# Altium schematic symbol library Intelliclone.SchLib: 488 symbols (part 1 of 6)
Pins are listed as number, name and electrical type; pins without a type are passive.

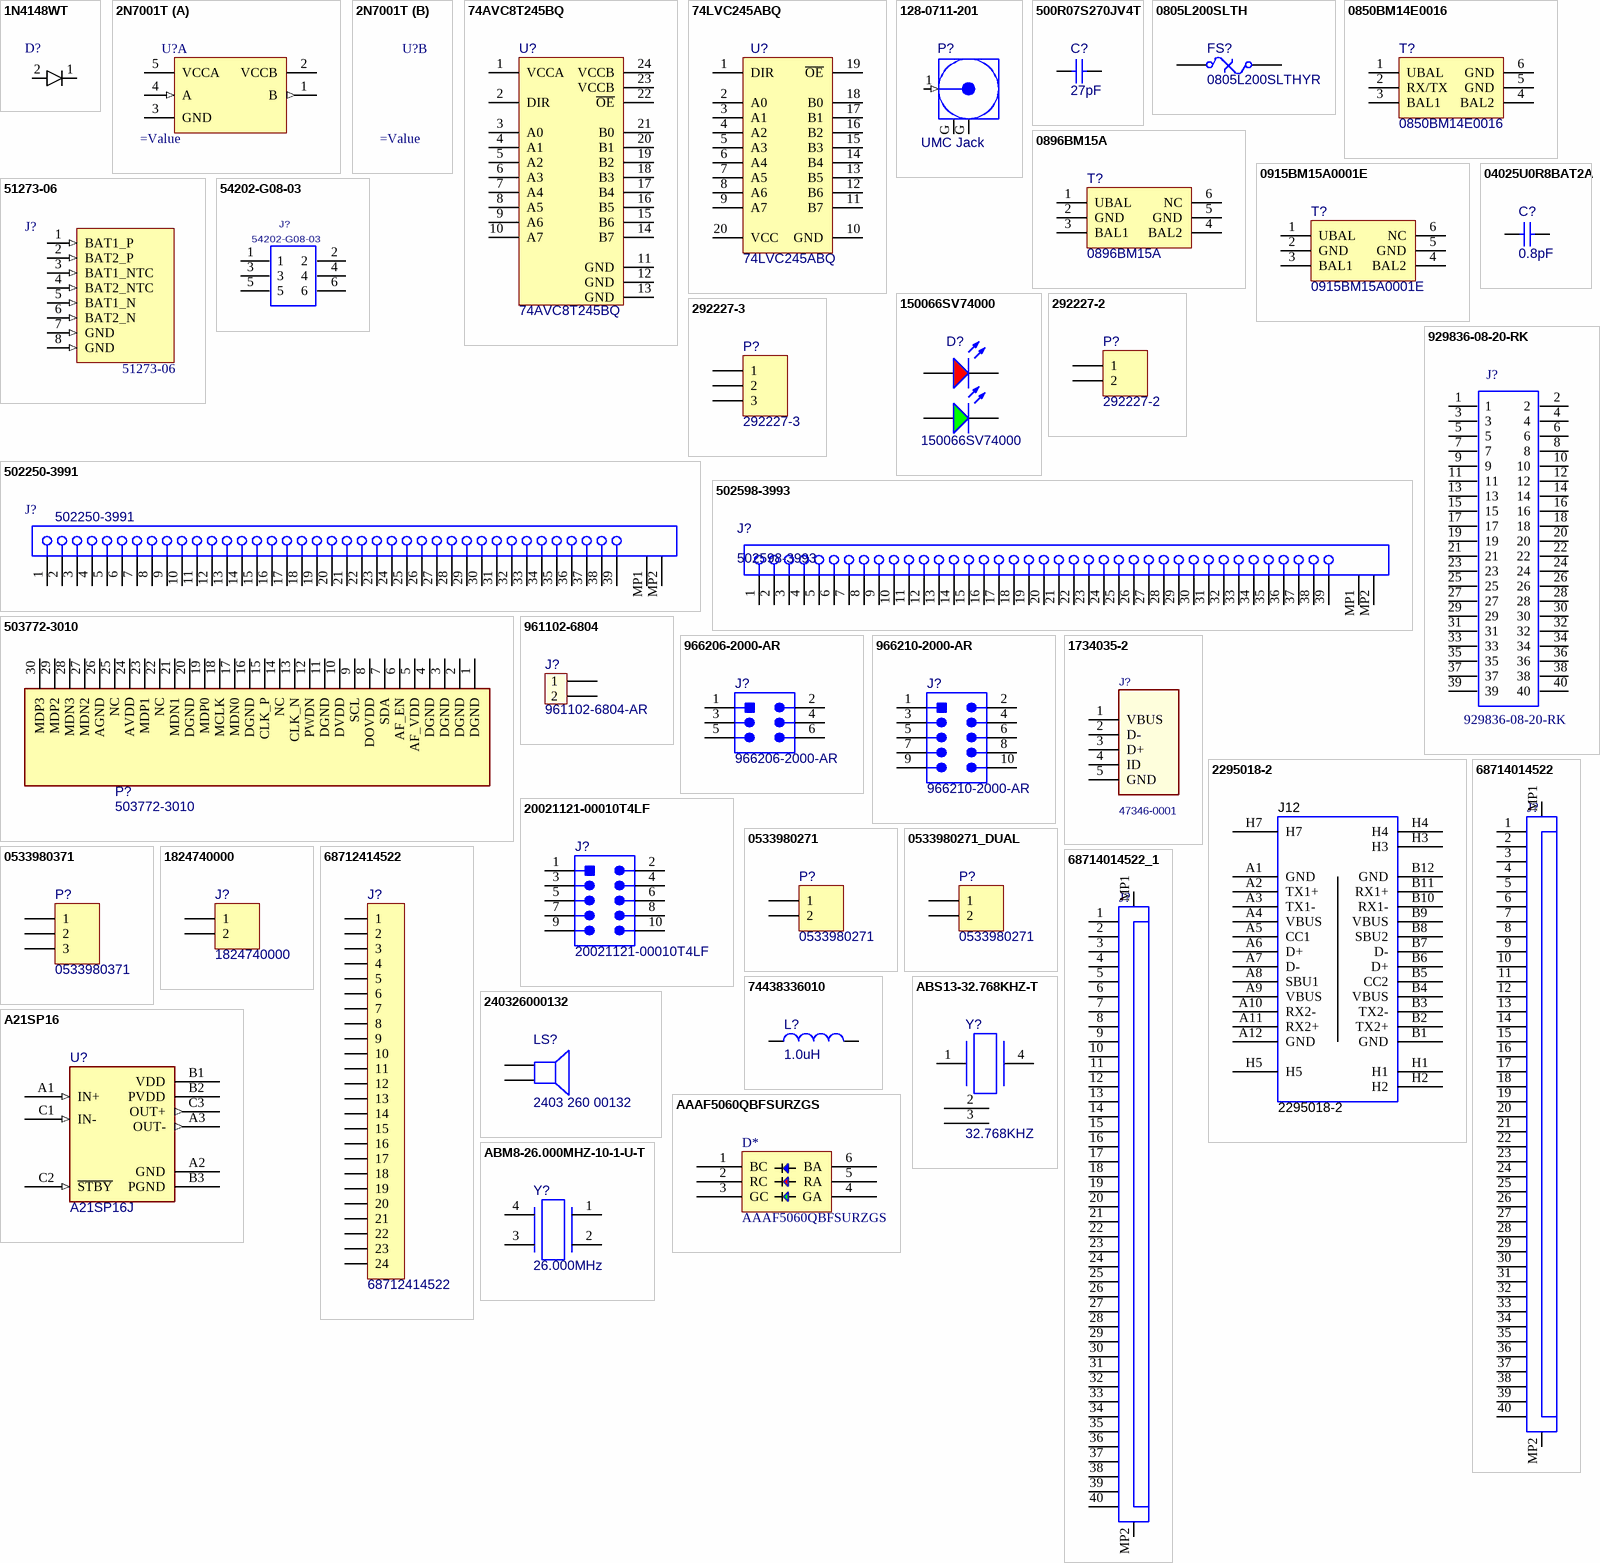
[diagram p0: symbols 1N4148WT to ABS13-32.768KHZ-T]

## 1N4148WT
designator D?  (value not drawn)
DIODE GEN PURP 75V 200MA SOD523F; Manufacturer 1: ON Semiconductor; CMT Part Number: 100263; Supplier Part Number 1: 1N4148WTCT-ND; Manufacturer Part Number 1: 1N4148WT; Supplier 1: Digi-Key; Value: 1N4148WT
footprint SODFL1608X70N
pins: 1 C, 2 A

## 2N7001T
designator U?
IC 1-BIT DUAL-SUPPLY BUFFERED VOLTAGE TRANSLATOR
footprint SOT65P210X110-5N (SOT23, 5-Leads, Body 2.00x2.10mm, Pitch 0.65mm, IPC Medium Density)
part A pins: 1 B (out), 2 VCCB (power), 3 GND, 4 A (in), 5 VCCA (power)

## 74AVC8T245BQ
designator U?
IC TXRX 8BIT TRANSLATNG 24DHVQFN; Manufacturer 1: NXP; Manufacturer Part Number 1: 74AVC8T245BQ,118; Value: 74AVC8T245BQ; Supplier 1: Digi-Key; Supplier Part Number 1: 568-5252-1-ND
pins: 1 VCCA, 2 DIR, 3 A0, 4 A1, 5 A2, 6 A3, 7 A4, 8 A5, 9 A6, 10 A7, 11 GND, 12 GND, 13 GND, 14 B7, 15 B6, 16 B5, 17 B4, 18 B3, 19 B2, 20 B1, 21 B0, 22 ~{OE}, 23 VCCB, 24 VCCB

## 74LVC245ABQ
designator U?
IC TRANSCVR TRI-ST 8BIT 20DHVQFN; Manufacturer 1: NXP; Manufacturer Part Number 1: 74LVC245ABQ,115; Value: 74LVC245ABQ; Supplier 1: Digi-Key; Supplier 2: Arrow; Supplier Part Number 1: 568-3012-1-ND; Supplier Part Number 2: kDK-L0v7NJcHE0un6lTKracsxHbhaSEGDfZ0FNUtz-s
pins: 1 DIR, 2 A0, 3 A1, 4 A2, 5 A3, 6 A4, 7 A5, 8 A6, 9 A7, 10 GND, 11 B7, 12 B6, 13 B5, 14 B4, 15 B3, 16 B2, 17 B1, 18 B0, 19 ~{OE}, 20 VCC

## 128-0711-201
designator P?, comment UMC Jack
CONN UMC RCPT STR 50 OHM SMD; Manufacturer Part Number 1: 128-0711-201; Manufacturer 1: Emerson; Supplier 1: Digi-Key; Supplier Part Number 1: J983CT-ND; Supplier 2: Mouser; Supplier Part Number 2: 530-1280711201; CMT Part Number: *; Value: UMC Jack
footprint MMCX2.54-V5 (Connector; RF Coaxial, MMCX, Thru-Hole; 5 Position; Vertical)
footprint U.FL/UMCC (Snap-on connector 6 GHz)
pins: 1 Signal (in) "Signal Pin", G GND (power), G GND (power)

## 500R07S270JV4T
designator C?, comment 27pF
CAP CER 27PF 50V 5% NP0 0402; Manufacturer 1: Johanson Technology; Manufacturer Part Number 1: 500R07S270JV4T; Supplier 1: Digi-Key; Supplier Part Number 1: 712-1277-1-ND; Supplier 2: Mouser; Supplier Part Number 2: 609-500R07S270JV4T; Value: 27pF
footprint CC1608-0603
simulation model CAP (Capacitor)
signal-integrity model Cap
footprint RESC0603L
footprint RESC1608L
footprint RESC3216L
footprint CAPC2512N
footprint 0603
footprint 0603_MOD
footprint 0402-TIGHT (For packing)
footprint 0402 Capacitor
pins: 1, 2

## 0805L200SLTH
designator FS?, comment 0805L200SLTHYR
PTC RESET 6V LO RHO 0805 2.00A; Manufacturer 1: Littelfuse; Manufacturer Part Number 1: 0805L200SLTHYR; Supplier 1: Digi-Key; Supplier Part Number 1: F5780CT-ND; Supplier 2: Mouser; Supplier Part Number 2: 576-0805L200SLTHYR; Value: 0805L200SLTHYR
footprint RESC2113X05N (Footprint not found)
pins: 1, 2

## 0850BM14E0016
designator T?
RF BALUN FILTER 928MHZ SMD; Manufacturer 1: Johanson Technology Inc.; Manufacturer Part Number 1: 0850BM14E0016T; Value: 0915BM15A0001E; Part Type: Balun; Supplier 1: Digi-Key; Supplier Part Number 1: 712-1621-1-ND
footprint BALUN-0850BM14
footprint GE0805-C-1 (Mini-Circuits 6-pin 0805-size device)
pins: 1 UBAL, 2 RX/TX, 3 BAL1, 4 BAL2, 5 GND, 6 GND

## 0896BM15A
designator T?
FILTER BALUN MATCH 863-928MHZ; Manufacturer 1: Johanson Technology; Value: 0896BM15A0001E; Part Type: Balun; Supplier 1: Digi-Key; Supplier Part Number 1: 712-1474-1-ND; Supplier 2: Mouser; Supplier Part Number 2: 609-0896BM15A0001E; Manufacturer Part Number 1: 0896BM15A0001E
footprint BALUN-0896BM15A
footprint GE0805-C-1 (Mini-Circuits 6-pin 0805-size device)
pins: 1 UBAL, 2 GND, 3 BAL1, 4 BAL2, 5 GND, 6 NC

## 0915BM15A0001E
designator T?
FILTER BANDPASS 902-928MHZ TI; Manufacturer 1: Johanson Technology; Part Type: Balun; Value: 0915BM15A0001E; Manufacturer Part Number 1: 0915BM15A0001E; Supplier 1: Digi-Key; Supplier Part Number 1: 712-1541-1-ND; Supplier 2: Mouser; Supplier Part Number 2: 609-0915BM15A0001E
footprint BALUN-0896BM15A
footprint GE0805-C-1 (Mini-Circuits 6-pin 0805-size device)
pins: 1 UBAL, 2 GND, 3 BAL1, 4 BAL2, 5 GND, 6 NC

## 04025U0R8BAT2A
designator C?, comment 0.8pF
CAP CER 0.8PF 50V NP0 0402; Manufacturer 1: AVX; Manufacturer Part Number 1: 04025U0R8BAT2A; Supplier 1: Digi-Key; Supplier Part Number 1: 478-5716-1-ND; Supplier 2: Mouser; Supplier Part Number 2: 581-04025U0R8BAT2A; Value: 0.8pF
footprint CC1608-0603
simulation model CAP (Capacitor)
signal-integrity model Cap
footprint RESC0603L
footprint RESC1608L
footprint RESC3216L
footprint CAPC2512N
footprint 0603
footprint 0603_MOD
footprint 0402-TIGHT (For packing)
footprint 0402 Capacitor
pins: 1, 2

## 51273-06
designator J?
1.2mm Pitch WTB Wafer Connector; Manufacturer 1: ACES Electronics; Manufacturer Part Number 1: 51273-06; Supplier 1: CMT; Supplier Part Number 1: *; Value: 51273-06; CMT Part Number: *
footprint 51273-06 (6 pin battery connector)
pins: 1 BAT1_P (in), 2 BAT2_P (in), 3 BAT1_NTC (in), 4 BAT2_NTC (in), 5 BAT1_N (in), 6 BAT2_N (in), 7 GND (in), 8 GND (in)

## 54202-G08-03
designator J?
CONN HEADER SMD 6POS 2.54MM; Manufacturer: Amphenol FCI; Manufacturer Part Number: 54202-G0803ALF; Connector Type: Male Pin; Gender: Male; Depth: 4.83mm; Supplier: Digi-Key; Supplier Part Number: 609-5785-2-ND
footprint TSM-103-XX-XXX-DV
footprint TSM-103-XX-XXX-DV
pins: 1, 2, 3, 4, 5, 6

## 150066SV74000
designator D?, comment value 150066SV74000  (hidden comment: GREEN)
LED GREEN/RED CLEAR SMD; Manufacturer 1: Wurth Electronik; CMT Part Number: 100250; Manufacturer Part Number 1: 150066SV74000; Supplier 1: Digi-Key; Supplier Part Number 1: 732-11430-1-ND
simulation model LED3 (Diode)
signal-integrity model LED
footprint 150066SV74000 (LED GREEN/RED CLEAR SMD)
pins: 1 K, 2 A, 3 K, 4 A

## 292227-2
designator P?
CONN HEADER 2POS 1.5MM HORIZ SMD; Manufacturer 1: TE Connectivity; Manufacturer Part Number 1: 292227-2; Part Type: Connector; Value: 292227-2; Supplier 1: Digi-Key; Supplier Part Number 1: A98695TR-ND
footprint PICOCLASP 1X3 (1mm 3pos SMD Header)
signal-integrity model Connector
footprint 292227-2 (Footprint not found)
pins: 1, 2

## 292227-3
designator P?
CONN HEADER 3POS 1.5MM HORIZ SMD; Manufacturer 1: TE Connectivity; Manufacturer Part Number 1: 292227-3; Part Type: Connector; Value: 292227-3; Supplier 1: Digi-Key; Supplier Part Number 1: A98696TR-ND
footprint PICOCLASP 1X3 (1mm 3pos SMD Header)
signal-integrity model Connector
footprint 292227-3 (CONN HEADER 3POS R/A SMD TIN)
pins: 1, 2, 3

## 502250-3991
designator J?
CONN FPC 39POS 0.30MM R/A; Manufacturer 1: Molex; Contact Position: Dual; Current (Max per Contact): 0.2A; Durability (mating cycles max): 10; Entry Angle: 90degrees Angle; Mated Height: 0.90mm; Material - Metal: Copper-Nickel-Tin; Material - Plating Mating: Gold; Packing: Tape and Reel; PCB Locator: No; PCB Retention: Yes; Voltage (Max): 50V AC (RMS)/DC; PackageVersion: Rev. D, 12/2008; PackageReference: 502250-3991; PackageDescription: 39-Lead FPC Connector, Pitch 0.3 mm; Supplier 1: Digi-Key; Supplier Part Number 1: WM2238-ND; Supplier 2: Digi-Key; Supplier Part Number 2: 502250-3991-ND; Supplier 3: Mouser; Supplier Part Number 3: 538-502250-3991; Material - Plating Termination: Gold; Number of Rows: 1; Orientation: Right Angle; Pitch - Mating Interface: 0.30mm; Polarized to PCB: Yes; RoHS: TRUE; Stackable: No; Mounting Technology: Surface Mount; PartNumber: 502250-3991; ComponentLink1Description: Manufacturer URL; ComponentLink1URL: http://www.molex.com/molex/index.jsp; ComponentLink2Description: Datasheet; ComponentLink2URL: http://www.molex.com/webdocs/datasheets/pdf/en-us/5022503991_FFC_FPC_CONNECTORS.pdf; ComponentLink3Description: Package Specification; ComponentLink3URL: http://www.molex.com/pdm_docs/sd/5022503991_sd.pdf; Manufacturer Part Number 1: 502250-3991; Value: 502250-3991
footprint MOLX-502250-3991 (FPC Connector, 39-Leads, Right Angle, Pitch 0.3 mm, Mated Height 0.9 mm, SMT)
pins: 1, 2, 3, 4, 5, 6, 7, 8, 9, 10, 11, 12, 13, 14, 15, 16, 17, 18, 19, 20, 21, 22, 23, 24, 25, 26, 27, 28, 29, 30, 31, 32, 33, 34, 35, 36, 37, 38, 39, MP1, MP2

## 502598-3993
designator J?
CONN FPC 39POS 0.30MM R/A; CMT Part Number: 100172; Manufacturer 1: Molex; Contact Position: Dual; Current (Max per Contact): 0.2A; Durability (mating cycles max): 10; Entry Angle: 90degrees Angle; Mated Height: 1.15mm; Material - Metal: Copper Alloy, Phosphor Bronze; Material - Plating Mating: Gold; Material - Plating Termination: Gold, Tin; Packing: Tape and Reel; PCB Locator: No; PCB Retention: Yes; Voltage (Max): 50V AC (RMS)/DC; PackageVersion: Rev. B, 08/2013; PackageReference: 502598-3993; PackageDescription: 39-Lead FPC Connector, Pitch 0.3 mm; Supplier 1: Mouser; Supplier Part Number 1: 538-502598-3993; Number of Rows: 1; Orientation: Right Angle; Pitch - Mating Interface: 0.30mm; Polarized to PCB: Yes; RoHS: TRUE; Stackable: No; Mounting Technology: Surface Mount; PartNumber: 502598-3993; ComponentLink1Description: Manufacturer URL; ComponentLink1URL: http://www.molex.com/molex/index.jsp; ComponentLink2Description: Datasheet; ComponentLink2URL: http://www.molex.com/webdocs/datasheets/pdf/en-us/5025983993_FFC_FPC_CONNECTORS.pdf; ComponentLink3Description: Package Specification; ComponentLink3URL: http://www.molex.com/pdm_docs/sd/5025983993_sd.pdf; Value: 502598-3993; Manufacturer Part Number 1: 502598-3993
footprint MOLX-502598-3993 (FPC Connector, 39-Leads, Right Angle, Pitch 0.3 mm, Mated Height 1.15 mm, SMT)
pins: 1, 2, 3, 4, 5, 6, 7, 8, 9, 10, 11, 12, 13, 14, 15, 16, 17, 18, 19, 20, 21, 22, 23, 24, 25, 26, 27, 28, 29, 30, 31, 32, 33, 34, 35, 36, 37, 38, 39, MP1, MP2

## 503772-3010
designator P?
CONN RCPT 30POS 0.4MM SMD GOLD; Manufacturer 1: Molex; Manufacturer Part Number 1: 503772-3010; Value: 503772-3010; Supplier 1: Digi-Key; Supplier Part Number 1: WM6252CT-ND
footprint 5037723010 (Molex Slim Stack 0.4mm)
pins: 1 DGND, 2 DGND, 3 DGND, 4 DGND, 5 AF_VDD, 6 AF_EN, 7 SDA, 8 DOVDD, 9 SCL, 10 DVDD, 11 DGND, 12 PWDN, 13 CLK_N, 14 NC, 15 CLK_P, 16 DGND, 17 MDN0, 18 MCLK, 19 MDP0, 20 DGND, 21 MDN1, 22 NC, 23 MDP1, 24 AVDD, 25 NC, 26 AGND, 27 MDN2, 28 MDN3, 29 MDP2, 30 MDP3

## 929836-08-20-RK
designator J?  value 929836-08-20-RK  (hidden comment: *)
40 Positions Header, Unshrouded Connector 0.100" (2.54mm) Through Hole Tin; Manufacturer: 3M; Manufacturer Part Number: 929836-08-20-RK
footprint HDR2X20-2.54MM-TH (40 Positions Header, Unshrouded Connector 0.100" (2.54mm) Through Hole Tin)
pins: 1, 2, 3, 4, 5, 6, 7, 8, 9, 10, 11, 12, 13, 14, 15, 16, 17, 18, 19, 20, 21, 22, 23, 24, 25, 26, 27, 28, 29, 30, 31, 32, 33, 34, 35, 36, 37, 38, 39, 40

## 961102-6804
designator J?, comment 961102-6804-AR
CONN HEADER VERT SGL 2POS GOLD; Manufacturer: 3M; Manufacturer Part Number: 961102-6804-AR; Value: 961102-6804-AR; Supplier: Digikey; Supplier Part Number: 3M155862-ND
footprint 961102-6804-AR (2 Positions Header, Unshrouded Connector 0.100" (2.54mm) Through Hole Gold)
pins: 1, 2

## 966206-2000-AR
designator J?
CONN RECEPT 6POS DL SMD; Manufacturer 1: 3M; Manufacturer Part Number 1: 966206-2000-AR-PR; Value: 966206-2000-AR; Part Type: Connector
footprint HDR2X5 (Connector; Header; 5x2 Position)
signal-integrity model Connector
footprint 966206-2000-AR
pins: 1, 2, 3, 4, 5, 6

## 966210-2000-AR
designator J?
CONN RECEPT 10POS DL SMD; Manufacturer 1: 3M; Manufacturer Part Number 1: 966210-2000-AR-PR; Value: 966210-2000-AR; Part Type: Connector
footprint HDR2X5 (Connector; Header; 5x2 Position)
signal-integrity model Connector
footprint 966210-2000-AR
pins: 1, 2, 3, 4, 5, 6, 7, 8, 9, 10

## 1734035-2
designator J?, comment 47346-0001
CONN RCPT 5POS MICRO USB R/A; Manufacturer 1: Molex Connector Corporation; Supplier Part Number: WM17141CT-ND; Manufacturer Part Number 1: 47346-0001; Supplier 1: Digi-Key; Supplier 2: Mouser; Supplier 3: Newark; Supplier Part Number 1: WM17141TR-ND; Supplier Part Number 2: 538-47346-0001; Supplier Part Number 3: 17X0438; Value: 47346-0001
footprint 47346-0001 (CONN RCPT 5POS MICRO USB R/A)
pins: 1 VBUS, 2 D-, 3 D+, 4 ID, 5 GND

## 2295018-2
designator J12
CONN  SPLASH PROOF USB TYPE C REC, DUAL; Manufacturer 1: TE; CMT Part Number: 100246; PackageReference: Connector, Receptacle, USB Type C, SMT; ComponentLink1Description: Datasheet Link; ComponentLink1URL: https://sps06.itg.ti.com/sites/KMS/crossdivteams/altium/docs/ComponentDatasheets/20-0000016-01_socket_mid-mount.pdf; Value: 2295018-2; Manufacturer Part Number 1: 2295018-2; Supplier 1: Newark; Supplier 2: Allied; Supplier 3: Digi-Key; Supplier Part Number 1: 84Y3653; Supplier Part Number 2: 70890886; Supplier Part Number 3: A124378TB-ND
footprint 2295018-2 (Connector, Receptacle, USB Type C, SMT)
pins: A1 GND, A2 TX1+, A3 TX1-, A4 VBUS, A5 CC1, A6 D+, A7 D-, A8 SBU1, A9 VBUS, A10 RX2-, A11 RX2+, A12 GND, B1 GND, B2 TX2+, B3 TX2-, B4 VBUS, B5 CC2, B6 D+, B7 D-, B8 SBU2, B9 VBUS, B10 RX1-, B11 RX1+, B12 GND, H1, H2, H3, H4, H5, H7

## 20021121-00010T4LF
designator J?
CONN HEADER 10POS DL UNSHRD SMD; Manufacturer 1: FCI; CMT Part Number: 100247; Supplier 1: Digi-Key; Supplier Part Number 1: 609-3729-ND; Manufacturer Part Number 1: 20021121-00010T4LF; Value: 20021121-00010T4LF
footprint HDR2X5 (Connector; Header; 5x2 Position)
signal-integrity model Connector
footprint HDR2X5-1.27MM-SMT (Dual row connector, 10-pin)
pins: 1, 2, 3, 4, 5, 6, 7, 8, 9, 10

## 0533980271
designator P?
CONN HEADER SMD 2POS 1.25MM; Manufacturer 1: Molex; Manufacturer Part Number 1: 0533980271; Part Type: Connector; Supplier 1: Digi-Key; Value: 0533980271; Supplier Part Number 1: WM7606CT-ND
signal-integrity model Connector
footprint 53398-0271
pins: 1, 2

## 0533980271_DUAL
designator P?, comment 0533980271
CONN HEADER SMD 2POS 1.25MM - dual pad with B2B-PH-SM4-TB; Manufacturer 1: Molex; Manufacturer Part Number 1: 0533980271; Part Type: Connector; Supplier 1: Digi-Key; Value: 0533980271; Supplier Part Number 1: WM7606CT-ND
signal-integrity model Connector
footprint BATTERY_DUAL (Dual pad battery connector)
pins: 1, 2

## 0533980371
designator P?
CONN HEADER 3POS 1.25MM VERT SMD; Manufacturer 1: Molex; Manufacturer Part Number 1: 0533980371; Part Type: Connector; Value: 0533980371; Supplier 1: Digi-Key; Supplier Part Number 1: WM7607CT-ND; Supplier 2: Mouser; Supplier Part Number 2: 538-53398-0371
footprint PICOCLASP 1X3 (1mm 3pos SMD Header)
signal-integrity model Connector
footprint 0533980371 (Footprint not found)
pins: 1, 2, 3

## 1824740000
designator J?
CONN TERM BLOCK 2POS 5MM R/A PCB; Manufacturer 1: Weidmuller; Manufacturer Part Number 1: 1824740000; Supplier 1: Digi-Key; Supplier Part Number 1: 281-2110-ND; Value: 1824740000
footprint HDR1X2 (Connector; Header; 2 Position)
signal-integrity model Connector
footprint 1824740000
pins: 1, 2

## 68712414522
designator J?
CONN FPC 24POS 0.5MM PITCH BOTTOM SMD; Manufacturer 1: Wurth Elektronik GmbH; ComponentLink1 Description: Manufacturer; ComponentLink2 Description: Datasheet; Manufacturer Part Number 1: 68712414522; ComponentLink1URL: http://www.we-online.com; ComponentLink2URL: http://katalog.we-online.de/em/datasheet/6871xx14522.pdf; Value: 68712414522; Part Type: Connector; Supplier 1: Digi-Key; Supplier Part Number 1: 732-3516-1-ND
footprint 68712414522 (24 pins)
pins: 1, 2, 3, 4, 5, 6, 7, 8, 9, 10, 11, 12, 13, 14, 15, 16, 17, 18, 19, 20, 21, 22, 23, 24

## 68714014522
designator J?
SMT ZIF Connectors WR-FPC, Horizontal, Bottom Contact, pitch 0.5 mm, 40 pins; Part Number: 68714014522; Rated Current: 0.5 A; Contact Resistance: 20 mOhm; Withstanding Voltage: 250 VAC; Working Voltage: 50 VAC; Pin Number: 40; Pitch: 0.5 mm; ComponentLink1Description: Manufacturer; ComponentLink1URL: http://www.we-online.de; ComponentLink2Description: Datasheet; ComponentLink2URL: https://katalog.we-online.de/em/datasheet/68714014522.pdf; Published Date: August 2018; Publisher: Wurth Elektronik; Operating Temperature: -25 to 85 degC; Packaging: Tape and Reel; Mounting Technology: SMT; Orientation: Horizontal; Contact Design: Bottom Contact
footprint 68714014522
pins: 1, 2, 3, 4, 5, 6, 7, 8, 9, 10, 11, 12, 13, 14, 15, 16, 17, 18, 19, 20, 21, 22, 23, 24, 25, 26, 27, 28, 29, 30, 31, 32, 33, 34, 35, 36, 37, 38, 39, 40, MP1, MP2

## 68714014522_1
designator J?
SMT ZIF Connectors WR-FPC, Horizontal, Bottom Contact, pitch 0.5 mm, 40 pins; Part Number: 68714014522; Rated Current: 0.5 A; Contact Resistance: 20 mOhm; Withstanding Voltage: 250 VAC; Working Voltage: 50 VAC; Pin Number: 40; Pitch: 0.5 mm; ComponentLink1Description: Manufacturer; ComponentLink1URL: http://www.we-online.de; ComponentLink2Description: Datasheet; ComponentLink2URL: https://katalog.we-online.de/em/datasheet/68714014522.pdf; Published Date: August 2018; Publisher: Wurth Elektronik; Operating Temperature: -25 to 85 degC; Packaging: Tape and Reel; Mounting Technology: SMT; Orientation: Horizontal; Contact Design: Bottom Contact
footprint 68714014522
pins: 1, 2, 3, 4, 5, 6, 7, 8, 9, 10, 11, 12, 13, 14, 15, 16, 17, 18, 19, 20, 21, 22, 23, 24, 25, 26, 27, 28, 29, 30, 31, 32, 33, 34, 35, 36, 37, 38, 39, 40, MP1, MP2

## 74438336010
designator L?, comment 1.0uH
INDUCTOR  FIXED 1UH 4A 32 MOHM SMD; Manufacturer 1: Wurth; Manufacturer Part Number 1: 74438336010; CMT Part Number: 100233; Supplier 1: Newark; Supplier Part Number 1: 87X9926; Supplier 2: Mouser; Supplier Part Number 2: 710-74438336010; Supplier 3: Digi-Key; Supplier Part Number 3: 732-5693-1-ND; Value: 1.0uH
simulation model INDUCTOR (Inductor)
signal-integrity model Inductor
footprint WE-MAPI_3020
pins: 1, 2

## 240326000132
designator LS?, comment 2403 260 00132
SPEAKER - COBRA WATERPROOF; Manufacturer 1: Knowles Acoustic; Manufacturer Part Number 1: 2403 260 00132; Value: 2403 260 00132; Supplier 1: Digi-Key; Supplier Part Number 1: 423-1205-ND
footprint 240326000057
footprint 240326000132 (Knowles COBRA speaker)
pins: 1, 2

## A21SP16
designator U?, comment A21SP16J
IC AMP AUDIO PWR 2.3W D 9DSBGA; Manufacturer 1: ST Microelectronics; CMT Part Number: 100213; Manufacturer Part Number 1: A21SP16J; Supplier 1: Arrow; Supplier Part Number 1: A21SP16J; Supplier 2: Mouser; Supplier Part Number 2: 511-A21SP16J; Value: A21SP16J
footprint BGA9C50P3X3_162X158X62 (BGA, 9-Leads, Body 1.62x1.58mmx0.63mm, Pitch 0.50mm)
pins: A1 IN+ (in), A2 GND (power), A3 OUT- (out), B1 VDD (power), B2 PVDD (power), B3 PGND (power), C1 IN- (in), C2 ~{STBY} (in), C3 OUT+ (out)

## AAAF5060QBFSURZGS
designator D*
LED RGB ROUND CLEAR SMD; Manufacturer 1: Kingbright; CMT Part Number: 100266; Color: Blue,Green,Red; Supplier 1: Digi-Key; Supplier Part Number 1: 754-1509-6-ND; Value: AAAF5060QBFSURZGS; Manufacturer Part Number 1: AAAF5060QBFSURZGS
footprint AAAF5060QBFSURZGS
pins: 1 BC, 2 RC, 3 GC, 4 GA, 5 RA, 6 BA

## ABM8-26.000MHZ-10-1-U-T
designator Y?, comment 26.000MHz
CRYSTAL 26.0000MHZ 10PF SMD; Manufacturer Part Number 1: ABM8-26.000MHZ-10-1-U-T; Manufacturer 1: Abracon; Part Type: Crystal; Supplier 1: Digi-Key; Supplier Part Number 1: 300-8230-1-ND; Supplier 2: Mouser; Supplier Part Number 2: 815-ABM8-26-T; Value: 26.000MHz
footprint XTAL/ABM8
pins: 1, 2, 3, 4

## ABS13-32.768KHZ-T
designator Y?, comment 32.768KHz
CRYSTAL 32.768KHZ 12.5PF SMD; Manufacturer 1: Abracon; Manufacturer Part Number 1: ABS13-32.768KHZ-T; Part Type: Crystal; Supplier 1: Digi-Key; Supplier Part Number 1: 535-9165-1-ND; Supplier 2: Mouser; Supplier Part Number 2: 815-ABS13-32.768KHZT; Value: 32.768KHZ
footprint XTAL/ABS13
pins: 1, 2, 3, 4

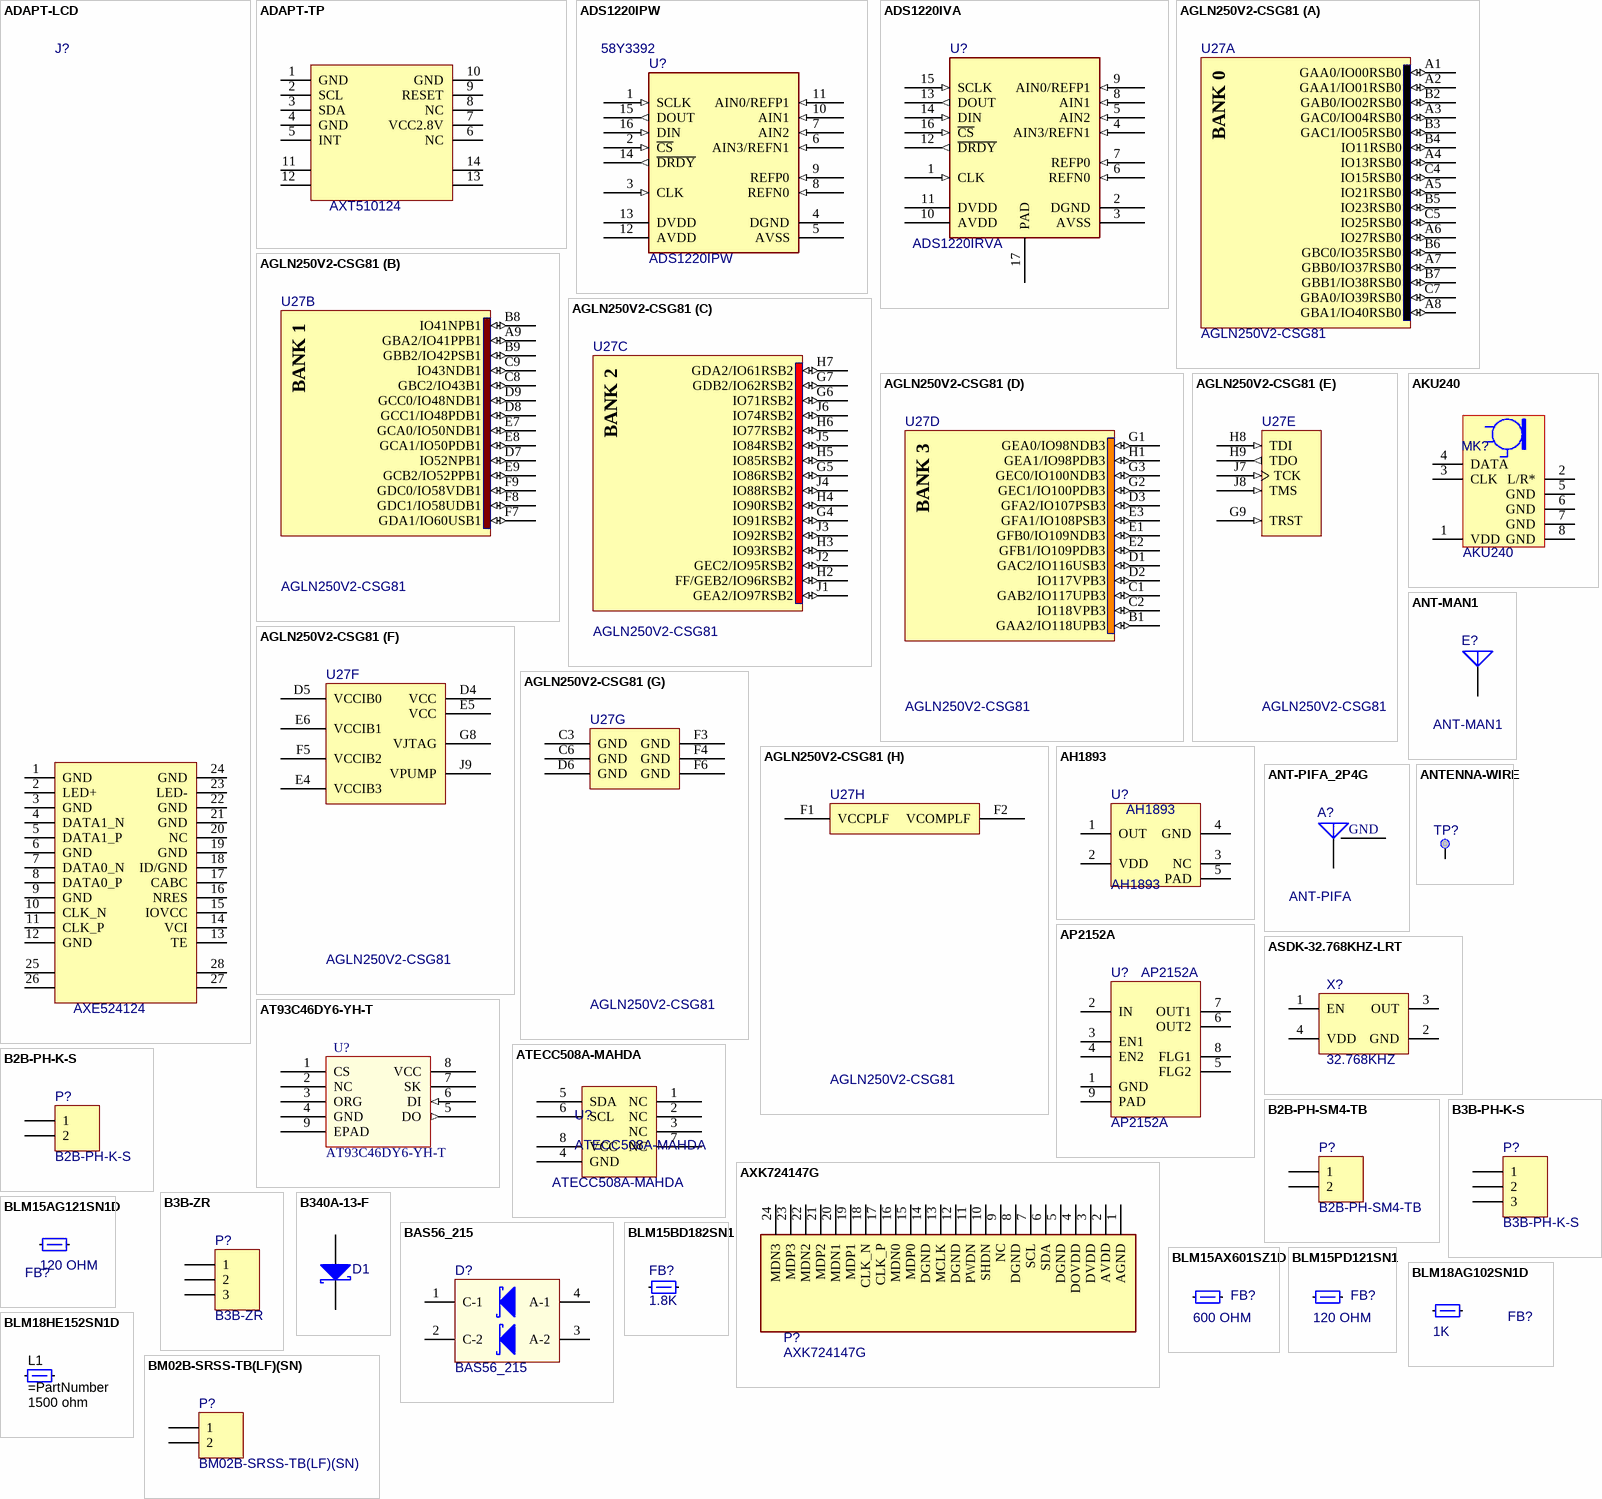
[diagram p1: symbols ADAPT-LCD to BM02B-SRSS-TB(LF)(SN)]

## ADAPT-LCD
designator J?  value AXE524124  (hidden comment: ADAPT-LCD)
CONN SOCKET .4MM 24 POS SMD; Manufacturer 1: Panasonic; Part Type: Connector; Manufacturer Part Number 1: AXE524124; Supplier 1: Digi-Key; Supplier Part Number 1: 255-3128-1-ND
footprint AXK5SA2277YG (P5KS 120 pin socket 4.5mm mated height)
pins: 1 GND, 2 LED+, 3 GND, 4 DATA1_N, 5 DATA1_P, 6 GND, 7 DATA0_N, 8 DATA0_P, 9 GND, 10 CLK_N, 11 CLK_P, 12 GND, 13 TE, 14 VCI, 15 IOVCC, 16 NRES, 17 CABC, 18 ID/GND, 19 GND, 20 NC, 21 GND, 22 GND, 23 LED-, 24 GND, 25, 26, 27, 28

## ADAPT-TP
designator J?  value AXT510124  (hidden comment: ADAPT-TP)
CONN SOCKET F4S .4MM 10POS SMD; Manufacturer 1: Panasonic; Part Type: Connector; Manufacturer Part Number 1: AXT510124; Supplier 1: Digi-Key; Supplier Part Number 1: 255-2515-1-ND; Supplier 2: Mouser; Supplier Part Number 2: 769-AXT510124
footprint AXK5SA2277YG (P5KS 120 pin socket 4.5mm mated height)
pins: 1 GND, 2 SCL, 3 SDA, 4 GND, 5 INT, 6 NC, 7 VCC2.8V, 8 NC, 9 RESET, 10 GND, 11, 12, 13, 14

## ADS1220IPW
designator U?  Supplier Part Number 4: 58Y3392
IC ADC 24-BIT 2KSPS 16-TSSOP; Manufacturer 1: Texas Instruments; Supplier 1: Digi-Key; Supplier 2: Mouser; Supplier 3: Newark; Supplier Part Number 1: 296-36512-5-ND; Supplier Part Number 2: 595-ADS1220IPW; Supplier Part Number 3: 04X4632; Manufacturer Part Number 1: ADS1220IPW; Supplier 4: Newark
footprint SOP65P640X110-16N
footprint RVA16_2P14X2P14; pin to pad 1>15 2>16 3>1 4>2 5>3 6>4 7>5 8>6 9>7 10>8 11>9 12>10 13>11 14>12 15>13 16>14
pins: 1 SCLK (in), 2 ~{CS} (in), 3 CLK (in), 4 DGND (power), 5 AVSS (power), 6 AIN3/REFN1 (in), 7 AIN2 (in), 8 REFN0 (in), 9 REFP0 (in), 10 AIN1 (in), 11 AIN0/REFP1 (in), 12 AVDD (power), 13 DVDD (power), 14 ~{DRDY} (out), 15 DOUT (out), 16 DIN (in)

## ADS1220IVA
designator U?, comment ADS1220IRVA
IC ADC 24-BIT 2KSPS 16-QFN; Manufacturer 1: Texas Instruments; Manufacturer Part Number 1: ADS1220IRVAT; Supplier 1: Newark; Supplier Part Number 1: 58Y3392; Value: ADS1220IRVA
footprint RVA16_2P14X2P14
pins: 1 CLK (in), 2 DGND (power), 3 AVSS (power), 4 AIN3/REFN1 (in), 5 AIN2 (in), 6 REFN0 (in), 7 REFP0 (in), 8 AIN1 (in), 9 AIN0/REFP1 (in), 10 AVDD (power), 11 DVDD (power), 12 ~{DRDY} (out), 13 DOUT (out), 14 DIN (in), 15 SCLK (in), 16 ~{CS} (in), 17 PAD (power)

## AGLN250V2-CSG81
designator U27
IC FPGA 60 I/O 81CSP; Manufacturer 1: Actel; DatasheetVersion: rev11, Jul-2010; PackageVersion: rev40, Jun-2011; PackageReference: CS81; PackageDescription: 81-Ball Chip Scale Ball Grid Array 0.5 mm Pitch (CS81); ComponentLink1Description: Manufacturer URL; ComponentLink1URL: http://www.actel.com/; ComponentLink2Description: IGLOO nano Datasheet; ComponentLink2URL: http://www.actel.com/documents/IGLOO_nano_DS.pdf; ComponentLink3Description: Package Mechanical Drawings; ComponentLink3URL: http://www.actel.com/documents/PckgMechDrwngs.pdf; ComponentLink4Description: IGLOO nano Documents; ComponentLink4URL: http://www.actel.com/products/igloonano/docs.aspx; Value: AGLN250V2-CSG81; Manufacturer Part Number 1: AGLN250V2-CSG81
footprint CS81 (BGA, 81-Leads, Body 5x5mm, Pitch 0.5mm)
part A pins: A1 GAA0/IO00RSB0 (io), A2 GAA1/IO01RSB0 (io), A3 GAC0/IO04RSB0 (io), A4 IO13RSB0 (io), A5 IO21RSB0 (io), A6 IO27RSB0 (io), A7 GBB0/IO37RSB0 (io), A8 GBA1/IO40RSB0 (io), B2 GAB0/IO02RSB0 (io), B3 GAC1/IO05RSB0 (io), B4 IO11RSB0 (io), B5 IO23RSB0 (io), B6 GBC0/IO35RSB0 (io), B7 GBB1/IO38RSB0 (io), C4 IO15RSB0 (io), C5 IO25RSB0 (io), C7 GBA0/IO39RSB0 (io)
part B pins: A9 GBA2/IO41PPB1 (io), B8 IO41NPB1 (io), B9 GBB2/IO42PSB1 (io), C8 GBC2/IO43B1 (io), C9 IO43NDB1 (io), D7 IO52NPB1 (io), D8 GCC1/IO48PDB1 (io), D9 GCC0/IO48NDB1 (io), E7 GCA0/IO50NDB1 (io), E8 GCA1/IO50PDB1 (io), E9 GCB2/IO52PPB1 (io), F7 GDA1/IO60USB1 (io), F8 GDC1/IO58UDB1 (io), F9 GDC0/IO58VDB1 (io)
part C pins: G4 IO91RSB2 (io), G5 IO86RSB2 (io), G6 IO71RSB2 (io), G7 GDB2/IO62RSB2 (io), H2 FF/GEB2/IO96RSB2 (io), H3 IO93RSB2 (io), H4 IO90RSB2 (io), H5 IO85RSB2 (io), H6 IO77RSB2 (io), H7 GDA2/IO61RSB2 (io), J1 GEA2/IO97RSB2 (io), J2 GEC2/IO95RSB2 (io), J3 IO92RSB2 (io), J4 IO88RSB2 (io), J5 IO84RSB2 (io), J6 IO74RSB2 (io)
part D pins: B1 GAA2/IO118UPB3 (io), C1 GAB2/IO117UPB3 (io), C2 IO118VPB3 (io), D1 GAC2/IO116USB3 (io), D2 IO117VPB3 (io), D3 GFA2/IO107PSB3 (io), E1 GFB0/IO109NDB3 (io), E2 GFB1/IO109PDB3 (io), E3 GFA1/IO108PSB3 (io), G1 GEA0/IO98NDB3 (io), G2 GEC1/IO100PDB3 (io), G3 GEC0/IO100NDB3 (io), H1 GEA1/IO98PDB3 (io)
part E pins: G9 TRST (in), H8 TDI (in), H9 TDO (out), J7 TCK (in), J8 TMS (in)
part F pins: D4 VCC (power), D5 VCCIB0 (power), E4 VCCIB3 (power), E5 VCC (power), E6 VCCIB1 (power), F5 VCCIB2 (power), G8 VJTAG (power), J9 VPUMP (power)
part G pins: C3 GND (power), C6 GND (power), D6 GND (power), F3 GND (power), F4 GND (power), F6 GND (power)
part H pins: F1 VCCPLF (power), F2 VCOMPLF (power)
part A text: BANK 0
part B text: BANK 1
part C text: BANK 2
part D text: BANK 3

## AH1893
designator U?
IC HALL SENSR OMNIPLOR SW 4DFN; Manufacturer Part Number 1: AH1893-FA-7; Manufacturer 1: Diodes Inc; Value: AH1893; Supplier 1: Digi-Key; Supplier Part Number 1: AH1893-FA-7DICT-ND; Supplier 2: Mouser; Supplier Part Number 2: 621-AH1893-FA-7
footprint DFN65P160X120X53_HS-5N (DFN, 4-Leads, Body 1.60x1.20mm, Pitch 0.65mm, Thermal Pad 0.65x0.85mm, IPC Medium Density)
pins: 1 OUT, 2 VDD, 3 NC, 4 GND, 5 PAD

## AKU240
designator MK?
MIC SISONIC MINI TOP RF; Part Type: Microphone; Value: AKU240
pins: 1 VDD, 2 L/R*, 3 CLK, 4 DATA (power), 5 GND, 6 GND, 7 GND, 8 GND

## ANT-MAN1
designator E?  (no BOM)
ANTENNA PCB PATCH 3.5-5.0GHZ; Manufacturer Part Number 1: NONE; Manufacturer 1: NONE; Value: ANT-MAN1
footprint ANT-MAN1 (UWB MAN antenna)
pins: 1 A

## ANT-PIFA_2P4G
designator A?, comment ANT-PIFA  (net tie, no BOM)
ANTENNA PCB PIFA 2.4GHZ; Manufacturer Part Number 1: NONE; Manufacturer 1: NONE; Value: ANT-PIFA
footprint ANT-CYPRESS-MIFA (FR4 2.5 GHz Narrowband Antenna)
pins: 1 A, 2 GND

## ANTENNA-WIRE
designator TP?, comment Testpoint  (value not drawn)  (no BOM)
TESTPOINT SMT SMALL; Manufacturer 1: NONE; Value: Testpoint; Manufacturer Part Number 1: NONE
footprint TP (Footprint not found)
footprint TP/SMALL (Footprint not found)
footprint ANT-TH (Through hole antenna for .010" wire and ferrule)
pins: 1

## AP2152A
designator U?
IC PWR SW USB 2CH 0.5A 8-DFN; Manufacturer Part Number 1: AP2152AFGEG-7; Manufacturer 1: Diodes Inc; Value: AP2152AFGEG-7; Supplier 1: Digi-Key; Supplier 2: Mouser; Supplier Part Number 1: AP2152AFGEG-7DICT-ND; Supplier Part Number 2: 621-AP2152AFGEG-7
footprint QFN65P300X300X60_HS-9N (QFN, 8-Leads, Body 3.00x3.00mm, Pitch 0.65mm, Thermal Pad 1.50x2.25mm, IPC Medium Density)
pins: 1 GND, 2 IN, 3 EN1, 4 EN2, 5 FLG2, 6 OUT2, 7 OUT1, 8 FLG1, 9 PAD

## ASDK-32.768KHZ-LRT
designator X?, comment 32.768KHZ
OSC XO 32.768KHZ CMOS SMD; Manufacturer Part Number 1: ASDK-32.768KHZ-LRT; Manufacturer 1: Abracon; Value: 32.768KHZ; Supplier 1: Mouser; Supplier Part Number 1: 815-ASDK-32.7K-LRT; Supplier 2: Avnet; Supplier Part Number 2: ASDK-32.768KHZ-LRT
footprint DFN90P200X70-4N (DFN, 4-Leads, Body 2.50x2.00mm, Pitch 0.90mm, IPC Medium Density)
pins: 1 EN, 2 GND, 3 OUT, 4 VDD

## AT93C46DY6-YH-T
designator U?
IC EEPROM 1K SPI 2MHZ 8MINI MAP; Manufacturer 1: Atmel; Manufacturer Part Number 1: AT93C46DY6-YH-T; RefDes: RefDes; Type: DEV; Value: AT93C46DY6-YH-T; Supplier 1: Digi-Key; Supplier Part Number 1: AT93C46DY6-YH-TCT-ND
footprint 8Y6
pins: 1 CS (power), 2 NC, 3 ORG, 4 GND (power), 5 DO (out), 6 DI (in), 7 SK, 8 VCC, 9 EPAD

## ATECC508A-MAHDA
designator U?
IC EEPROM CRYPTO 10KB I2C 8UDFN; Manufacturer 1: Atmel; Supplier 1: Digi-Key; Supplier 2: Arrow; Supplier Part Number 1: ATECC508A-MAHDA-SCT-ND; Supplier Part Number 2: N71pjvoVqNkuWFD1LKQQZgWcHjeSxNU5r3g1QiZ4jJw; Value: ATECC508A-MAHDA; Manufacturer Part Number 1: ATECC508A-MAHDA
footprint SON50P300X60_HS-9N (Footprint not found)
pins: 1 NC, 2 NC, 3 NC, 4 GND (power) "Ground", 5 SDA (oc) "I2C SDA", 6 SCL (oc) "I2C SCL", 7 NC, 8 VCC (power) "Supply"

## AXK724147G
designator P?
CONN SOCKET 24POS 0.4MM SMD GOLD; Manufacturer 1: Panasonic; CMT Part Number: 100267; Manufacturer Part Number 1: AXK724147G; Value: AXK724147G; Supplier 1: Mouser; Supplier Part Number 1: 769-AXK724147G; Supplier 2: Digi-Key; Supplier Part Number 2: 255-2535-1-ND
footprint AXK724147G (Panasonic P4 Family Connector Socket 24 pins)
pins: 1 AGND, 2 AVDD, 3 DVDD, 4 DOVDD, 5 DGND, 6 SDA, 7 SCL, 8 DGND, 9 NC, 10 SHDN, 11 PWDN, 12 DGND, 13 MCLK, 14 DGND, 15 MDP0, 16 MDN0, 17 CLK_P, 18 CLK_N, 19 MDP1, 20 MDN1, 21 MDP2, 22 MDN2, 23 MDP3, 24 MDN3

## B2B-PH-K-S
designator P?
CONN HEADER PH TOP 2POS 2MM; Manufacturer 1: JST; Manufacturer Part Number 1: B2B-PH-K-S; Part Type: Connector; Value: B2B-PH-K-S
signal-integrity model Connector
footprint B2B-PH-K-S (CONN HEADER PH TOP 2POS 2MM)
pins: 1, 2

## B2B-PH-SM4-TB
designator P?
CONN HEADER PH TOP 2POS 2MM SMD; Manufacturer Part Number 1: B2B-PH-SM4-TB(LF)(SN); Manufacturer 1: JST; CMT Part Number: 100183; Part Type: Connector; Value: B2B-PH-SM4-TB; Supplier 1: Digi-Key; Supplier Part Number 1: 455-1734-1-ND
signal-integrity model Connector
footprint B2B-PH-SM4-TB (CONN HEADER PH TOP 2POS 2MM SMD)
footprint JST_B2B-PH-SM4-TB(LF)(SN)
pins: 1, 2

## B3B-PH-K-S
designator P?
CONN HEADER PH TOP 3POS 2MM; Manufacturer Part Number 1: B3B-PH-K-S(LF)(SN); Manufacturer 1: JST; CMT Part Number: 100182; Part Type: Connector; Value: B3B-PH-K-S; Supplier 1: Digi-Key; Supplier Part Number 1: 455-1705-ND
signal-integrity model Connector
footprint B3B-PH-K-S (CONN HEADER PH TOP 3POS 2MM)
pins: 1, 2, 3

## B3B-ZR
designator P?
CONN HEADER ZR TOP 3POS 1.5MM; Manufacturer 1: JST; Manufacturer Part Number 1: B3B-ZR; Part Type: Connector; Value: B3B-ZR
signal-integrity model Connector
footprint B3B-ZR (CONN HEADER ZR TOP 3POS 1.5MM)
pins: 1, 2, 3

## B340A-13-F
designator D1  (value not drawn)
DIODE SCHOTTKY 40V 3A SMA; Manufacturer 1: Diodes Inc.; Manufacturer Part Number 1: B340A-13-F; ComponentLink1Description: Datasheet link; ComponentLink1URL: http://www.diodes.com/datasheets/ds30891.pdf; Value: B340A-13-F; Supplier 1: Digi-Key; Supplier Part Number 1: B340A-FDICT-ND
signal-integrity model Diode
simulation model DI_B340A
footprint SMA
pins: 1 K, 2 A

## BAS56_215
designator D?
DIODE ARRAY GP 60V 200MA SOT143B; Manufacturer 1: Nexperia; Manufacturer Part Number 1: BAS56,235; Supplier 1: Digikey; Supplier Part Number 1: 1727-6379-6-ND
footprint PESD2ETHAXR
pins: 1 C-1, 2 C-2, 3 A-2, 4 A-1

## BLM15AG121SN1D
designator FB?, comment 120 OHM
FERRITE BEAD 120 OHM 550mA 0402 1LN; Manufacturer 1: Murata; Manufacturer Part Number 1: BLM15AG121SN1D; CMT Part Number: 100171; Supplier 1: Digi-Key; Supplier Part Number 1: 490-1005-1-ND; Supplier 2: Mouser; Supplier Part Number 2: 81-BLM15AG121SN1D; Value: 120 OHM
simulation model INDUCTOR (Inductor)
signal-integrity model Inductor Iron
footprint 0402_MURATA_FB (For packing)
pins: 1, 2

## BLM15AX601SZ1D
designator FB?  value 600 OHM  (hidden comment: BLM15AX601SZ1D)
FERRITE BEAD 600 OHM 0402 500mA; Manufacturer 1: Murata; CMT Part Number: 100259; LatestRevisionNote: Re-released for DXP Platform.; Manufacturer Part Number 1: BLM15AX601SZ1D; Supplier 1: Digi-Key; Supplier Part Number 1: 490-16584-1-ND
footprint 0402-TIGHT (For packing)
simulation model INDUCTOR (Inductor)
signal-integrity model Inductor Iron
pins: 1, 2

## BLM15BD182SN1
designator FB?, comment 1.8K
FERRITE CHIP 1800 OHM 100MA 0402; Manufacturer 1: Murata; Manufacturer Part Number 1: BLM15BD182SN1; CMT Part Number: 100245; Supplier 1: Digi-Key; Supplier Part Number 1: 490-5195-1-ND; Supplier 2: Mouser; Supplier Part Number 2: 81-BLM15BD182SN1D; Value: 1.8K
footprint 0402-TIGHT (For packing)
simulation model INDUCTOR (Inductor)
signal-integrity model Inductor Iron
footprint 0402 Capacitor
pins: 1, 2

## BLM15PD121SN1
designator FB?  value 120 OHM  (hidden comment: BLM15PD121SN1)
FERRITE CHIP 120 OHM 1300MA 0402; Manufacturer 1: Murata; CMT Part Number: 100170; LatestRevisionNote: Re-released for DXP Platform.; Manufacturer Part Number 1: BLM15PD121SN1; Supplier 1: Digi-Key; Supplier Part Number 1: 490-5203-1-ND; Supplier 2: Mouser; Supplier Part Number 2: 81-BLM15AG121SN1D
footprint 0402-TIGHT (For packing)
simulation model INDUCTOR (Inductor)
signal-integrity model Inductor Iron
pins: 1, 2

## BLM18AG102SN1D
designator FB?  value 1K  (hidden comment: BLM18AG102SN1D)
FERRITE CHIP 1000 OHM 400MA 0603; Manufacturer 1: Murata; CMT Part Number: 100168; Value: BLM18AG102SN1D; Supplier 1: Digi-Key; Supplier Part Number 1: 490-1015-1-ND; Supplier 2: Mouser; Supplier Part Number 2: 81-BLM11A102S; Manufacturer Part Number 1: BLM18AG102SN1D
footprint CL0603
simulation model INDUCTOR (Inductor)
signal-integrity model Inductor Iron
pins: 1, 2

## BLM18HE152SN1D
designator L1  value 1500 ohm
FERRITE BEAD 1.5 KOHM 0603 1LN; Manufacturer 1: MuRata; Manufacturer Part Number 1: BLM18HE152SN1D; Imax_A: 0.5; Value1: 0.5 ohm; Value2: 0.5A; ZTyp@100MHz_Ohm: 1500; CompType: Ferrite Bead; SymbolVersion: 2009-06-02; PackageReference: 0603_950; RoHS: Y; MountType: SMT; ComponentLink1Description: Datasheet link; ComponentLink1URL: http://search.murata.co.jp/Ceramy/image/img/PDF/ENG/L0110S0101BLM18H.pdf; Publisher: Texas Instruments; DCR_ohm: 0.5; Published: 2014-04-30; Ztyp@1GHz_Ohm: 1500; Supplier 1: Digi-Key; Supplier Part Number 1: 490-5216-1-ND; Supplier 2: Mouser; Supplier Part Number 2: 81-BLM18HE152SN1D
footprint 0603_950
pins: 1, 2

## BM02B-SRSS-TB(LF)(SN)
designator P?
CONN HEADER SMD 2POS 1MM; Manufacturer 1: JST; Manufacturer Part Number 1: BM02B-SRSS-TB(LF)(SN); Part Type: Connector; Supplier 1: Digi-Key; Value: BM02B-SRSS-TB(LF)(SN); Supplier Part Number 1: 455-1788-1-ND
signal-integrity model Connector
footprint BM02B-SRSS-TB(LF)(SN) (Solar connecotr)
pins: 1, 2

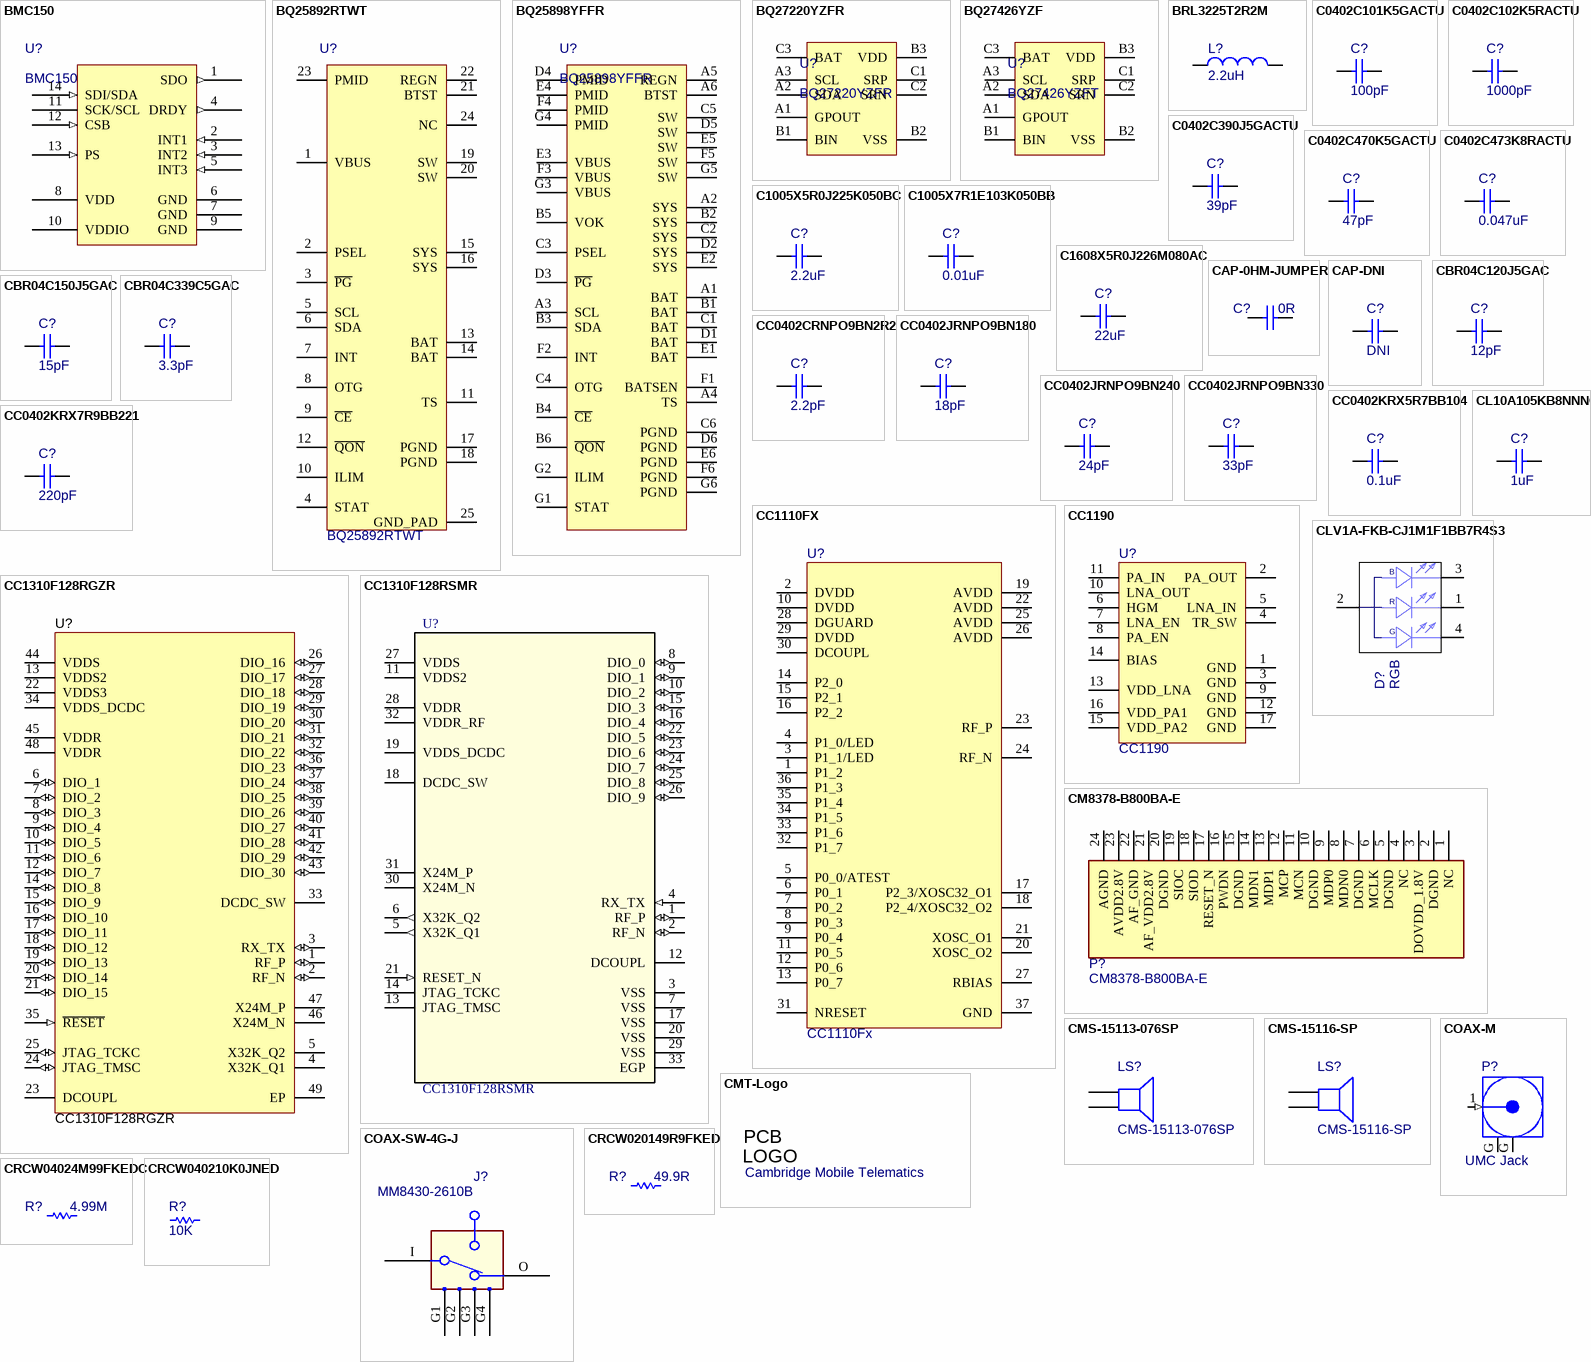
[diagram p2: symbols BMC150 to CRCW040210K0JNED]

## BMC150
designator U?
IC COMPASS 6 AXIS I2C 14LGA SMD; Manufacturer 1: Bosch; Manufacturer Part Number 1: BMC150; Supplier 1: Digi-Key; Supplier Part Number 1: 828-1041-6-ND; Value: BMC150
footprint QFN40P220X220X100-14N (QFN, 14-Leads, Body 2.20x2.20mm, Pitch 0.40mm, IPC Medium Density)
pins: 1 SDO (out), 2 INT1 (in), 3 INT2 (in), 4 DRDY (out), 5 INT3 (in), 6 GND (power), 7 GND (power), 8 VDD (power), 9 GND (power), 10 VDDIO (power), 11 SCK/SCL (oc), 12 CSB (in), 13 PS (in), 14 SDI/SDA (in)

## BQ25892RTWT
designator U?
IC BATT CHARGER LI-ION 24-WQFN (4x4); Manufacturer 1: Texas Instruments; Value: BQ25892RTWT; Manufacturer Part Number 1: BQ25892RTWT; Supplier 1: Digi-Key; Supplier Part Number 1: 296-41131-1-ND
footprint QFN50P400X400X80_HS-25N (QFN, 24-Leads, Body 4.00x4.00mm, Pitch 0.50mm, Thermal Pad 2.70x2.70mm, IPC Medium Density)
pins: 1 VBUS, 2 PSEL, 3 ~{PG}, 4 STAT, 5 SCL, 6 SDA, 7 INT, 8 OTG, 9 ~{CE}, 10 ILIM, 11 TS, 12 ~{QON}, 13 BAT, 14 BAT, 15 SYS, 16 SYS, 17 PGND, 18 PGND, 19 SW, 20 SW, 21 BTST, 22 REGN, 23 PMID, 24 NC, 25 GND_PAD

## BQ25898YFFR
designator U?
IC BATT CHARGER LI-ION 42DSBGA; Manufacturer 1: Texas Instruments; Value: BQ25898YFFR; Manufacturer Part Number 1: BQ25898YFFR; Supplier 1: Digi-Key; Supplier Part Number 1: BQ25898YFFR-ND
footprint BGA42C40P6X7_253X282X62 (BGA, 42-Leads, Body 2.53x2.82mmx0.63mm, Pitch 0.40mm)
pins: A1 BAT, A2 SYS, A3 SCL, A4 TS, A5 REGN, A6 BTST, B1 BAT, B2 SYS, B3 SDA, B4 ~{CE}, B5 VOK, B6 ~{QON}, C1 BAT, C2 SYS, C3 PSEL, C4 OTG, C5 SW, C6 PGND, D1 BAT, D2 SYS, D3 ~{PG}, D4 PMID, D5 SW, D6 PGND, E1 BAT, E2 SYS, E3 VBUS, E4 PMID, E5 SW, E6 PGND, F1 BATSEN, F2 INT, F3 VBUS, F4 PMID, F5 SW, F6 PGND, G1 STAT, G2 ILIM, G3 VBUS, G4 PMID, G5 SW, G6 PGND

## BQ27220YZFR
designator U?
IC BATTERY FUEL GAUGE 9DSBGA; Manufacturer 1: Texas Instruments; Value: BQ27220YZFR; Manufacturer Part Number 1: BQ27220YZFR
footprint BGA9C50P3X3_162X158X62 (BGA, 9-Leads, Body 1.62x1.58mmx0.63mm, Pitch 0.50mm)
pins: A1 GPOUT, A2 SDA, A3 SCL, B1 BIN, B2 VSS, B3 VDD, C1 SRP, C2 SRN, C3 BAT

## BQ27426YZF
designator U?, comment BQ27426YZFT
IC SYSTEM-SIDE IMPEDANCE TRACK FUEL; Manufacturer 1: Texas Instruments; Value: BQ27426YZFT; Manufacturer Part Number 1: BQ27426YZFT; Supplier 1: Digi-Key; Supplier Part Number 1: 296-43327-1-ND
footprint BGA9C50P3X3_162X158X62 (BGA, 9-Leads, Body 1.62x1.58mmx0.63mm, Pitch 0.50mm)
pins: A1 GPOUT, A2 SDA, A3 SCL, B1 BIN, B2 VSS, B3 VDD, C1 SRP, C2 SRN, C3 BAT

## BRL3225T2R2M
designator L?, comment 2.2uH
INDUCTOR 2.2UH 1.85A 20% 1210 SM; Manufacturer 1: Taiyo Yuden; Manufacturer Part Number 1: BRL3225T2R2M; Part Type: Inductor; Supplier 1: Digi-Key; Supplier Part Number 1: 587-2165-1-ND; Supplier 2: Mouser; Supplier Part Number 2: 963-BRL3225T2R2M; Value: 2.2uH
footprint INDC1005AL (Chip Inductor, Body 1.0x0.5mm, IPC High Density)
footprint INDC1608L (Chip Inductor, Body 1.6x0.8mm, IPC High Density)
footprint INDC2012L (Chip Inductor, Body 2.0x1.2mm, IPC High Density)
footprint 0603HP (Coilcraft Inductor)
footprint INDC3216AL (Chip Inductor, Body 3.2x1.6mm, IPC High Density)
footprint INDC4532L (Chip Inductor, Body 4.5x3.2mm, IPC High Density)
simulation model INDUCTOR (Inductor)
signal-integrity model Inductor
footprint 1210
pins: 1, 2

## C0402C101K5GACTU
designator C?, comment 100pF
CAP CER 100PF 50V 10% NP0 0402; Manufacturer 1: Kemet; Manufacturer Part Number 1: C0402C101K5GACTU; Supplier 1: Digi-Key; Supplier Part Number 1: 399-7750-6-ND; Tolerance: 10%; Supplier 2: Mouser; Supplier Part Number 2: 80-C0402C101K5G; Value: 100pF
footprint CC1608-0603
simulation model CAP (Capacitor)
signal-integrity model Cap
footprint RESC0603L
footprint RESC1608L
footprint RESC3216L
footprint CAPC2512N
footprint 0603
footprint 0603_MOD
footprint 0402-TIGHT (For packing)
footprint 0402 Capacitor
pins: 1, 2

## C0402C102K5RACTU
designator C?, comment 1000pF
CAP CER 1000PF 50V 10% X7R 0402; Manufacturer 1: Kemet; Manufacturer Part Number 1: C0402C102K5RACTU; CMT Part Number: 100244; Tolerance: 10%; Supplier 1: Digi-Key; Supplier Part Number 1: 399-1032-1-ND; Supplier 2: Mouser; Supplier Part Number 2: 80-C0402C102K5R; Value: 1000pF
footprint CC1608-0603
simulation model CAP (Capacitor)
signal-integrity model Cap
footprint RESC0603L
footprint RESC1608L
footprint RESC3216L
footprint CAPC2512N
footprint 0603
footprint 0603_MOD
footprint 0402-TIGHT (For packing)
footprint 0402 Capacitor
pins: 1, 2

## C0402C390J5GACTU
designator C?, comment 39pF
CAP CER 39PF 50V 5% NP0 0402; Manufacturer Part Number 1: C0402C390J5GACTU; Manufacturer 1: Kemet; Supplier 1: Digi-Key; Supplier Part Number 1: 399-1018-1-ND; Supplier 2: Mouser; Supplier Part Number 2: 80-C0402C390J5G; Value: 39pF
footprint CC1608-0603
simulation model CAP (Capacitor)
signal-integrity model Cap
footprint RESC0603L
footprint RESC1608L
footprint RESC3216L
footprint CAPC2512N
footprint 0603
footprint 0603_MOD
footprint 0402-TIGHT (For packing)
footprint 0402 Capacitor
pins: 1, 2

## C0402C470K5GACTU
designator C?, comment 47pF
CAP CER 47PF 50V 10% NP0 0402; Manufacturer 1: Kemet; Manufacturer Part Number 1: C0402C470K5GACTU; Tolerance: 10%; Supplier 1: Digi-Key; Supplier Part Number 1: 399-7796-1-ND; Supplier 2: Mouser; Supplier Part Number 2: 80-C0402C470K5G; Value: 47pF
footprint CC1608-0603
simulation model CAP (Capacitor)
signal-integrity model Cap
footprint RESC0603L
footprint RESC1608L
footprint RESC3216L
footprint CAPC2512N
footprint 0603
footprint 0603_MOD
footprint 0402-TIGHT (For packing)
footprint 0402 Capacitor
pins: 1, 2

## C0402C473K8RACTU
designator C?, comment 0.047uF
CAP CER 0.047UF 10V 10% X7R 0402; Manufacturer 1: Kemet; Manufacturer Part Number 1: C0402C473K8RACTU; Supplier 1: Digi-Key; Supplier Part Number 1: 399-4897-1-ND; Supplier 2: Mouser; Supplier Part Number 2: 80-C0402C473K8R; Value: 0.047uF
footprint CC1608-0603
simulation model CAP (Capacitor)
signal-integrity model Cap
footprint RESC0603L
footprint RESC1608L
footprint RESC3216L
footprint CAPC2512N
footprint 0603
footprint 0603_MOD
footprint 0402-TIGHT (For packing)
footprint 0402 Capacitor
pins: 1, 2

## C1005X5R0J225K050BC
designator C?, comment 2.2uF
CAP CER 2.2UF 6.3V 10% X5R 0402; Manufacturer Part Number 1: C1005X5R0J225K050BC; Manufacturer 1: TDK; Part Type: Chip Capacitor; Supplier 1: Digi-Key; Supplier Part Number 1: 445-6847-1-ND; Supplier 2: Mouser; Supplier Part Number 2: 810-C1005X5R0J225K; Value: 2.2uF
footprint CAPC3216L (Chip Capacitor, Body 3.2x1.6mm, IPC High Density)
footprint CAPC1005L (Chip Capacitor, Body 1.0x0.5mm, IPC High Density)
footprint CAPC2512L (Chip Capacitor, Body 2.54x1.27mm, IPC High Density)
footprint CAPC1608L (Chip Capacitor, Body 1.6x0.8mm, IPC High Density)
footprint CAPC3225L (Chip Capacitor, Body 3.2x2.5mm, IPC High Density)
simulation model CAP (Semiconductor Capacitor)
signal-integrity model Cap Semi
footprint 01005-TIGHT
footprint 0201-TIGHT
footprint 0402-TIGHT (For packing)
footprint 0402 Capacitor
footprint 0402CS-RADIO
pins: 1, 2

## C1005X7R1E103K050BB
designator C?, comment 0.01uF
CAP CER 10000PF 25V 10% X7R 0402; Manufacturer Part Number 1: C1005X7R1E103K050BB; Manufacturer 1: Yageo; Part Type: Chip Capacitor; Supplier 1: Digi-Key; Supplier Part Number 1: 445-1260-1-ND; Supplier 2: Mouser; Supplier Part Number 2: 810-C1005X7R1E103K; Value: 0.01uF
footprint CAPC3216L (Chip Capacitor, Body 3.2x1.6mm, IPC High Density)
footprint CAPC1005L (Chip Capacitor, Body 1.0x0.5mm, IPC High Density)
footprint CAPC2512L (Chip Capacitor, Body 2.54x1.27mm, IPC High Density)
footprint CAPC1608L (Chip Capacitor, Body 1.6x0.8mm, IPC High Density)
footprint CAPC3225L (Chip Capacitor, Body 3.2x2.5mm, IPC High Density)
simulation model CAP (Semiconductor Capacitor)
signal-integrity model Cap Semi
footprint 01005-TIGHT
footprint 0201-TIGHT
footprint 0402-TIGHT (For packing)
footprint 0402 Capacitor
footprint 0402CS-RADIO
pins: 1, 2

## C1608X5R0J226M080AC
designator C?, comment 22uF
CAP CER 22UF 6.3V 20% X5R 0603; Manufacturer 1: TDK; Manufacturer Part Number 1: C1608X5R0J226M080AC; Part Type: Chip Capacitor; Supplier 1: Digi-Key; Supplier Part Number 1: 445-8028-2-ND; Supplier 2: Mouser; Supplier Part Number 2: 810-C1608X5R0J226M; Value: 22uF
footprint CAPC3216L (Chip Capacitor, Body 3.2x1.6mm, IPC High Density)
footprint CAPC1005L (Chip Capacitor, Body 1.0x0.5mm, IPC High Density)
footprint CAPC2512L (Chip Capacitor, Body 2.54x1.27mm, IPC High Density)
footprint CAPC1608L (Chip Capacitor, Body 1.6x0.8mm, IPC High Density)
footprint CAPC3225L (Chip Capacitor, Body 3.2x2.5mm, IPC High Density)
simulation model CAP (Semiconductor Capacitor)
signal-integrity model Cap Semi
footprint 01005-TIGHT
footprint 0201-TIGHT
footprint C0603 (Chip Capacitor; Body 1.6 x 0.8 mm (LxW typ))
pins: 1, 2

## CAP-0HM-JUMPER
designator C?, comment 0R
RES SMD 0.0OHM JUMPER 1/20W 0201; Manufacturer Part Number 1: ERJ-1GN0R00C; Manufacturer 1: Panasonic; Supplier 1: Digi-Key; Supplier Part Number 1: P15979TR-ND; Supplier 2: Newark; Supplier Part Number 2: 51W5934; Value: 0R
footprint 0201 (0201 Standard Footprint)
footprint 0201_capacitor (0201 Standard Footprint)
pins: 1, 2

## CAP-DNI
designator C?, comment DNI
CAP NOT INSTALLED; Manufacturer 1: NONE; Manufacturer Part Number 1: NOT POPULATED; Value: DNI
footprint CC1608-0603
simulation model CAP (Capacitor)
signal-integrity model Cap
footprint RESC0603L
footprint RESC1608L
footprint RESC3216L
footprint CAPC2512N
footprint 0603
footprint 0603_MOD
footprint 0402-TIGHT (For packing)
footprint 0402 Capacitor
footprint 0201_capacitor (0201 Standard Footprint)
pins: 1, 2

## CBR04C120J5GAC
designator C?, comment 12pF
CAP CER 12PF 50V 5% NP0 0402; Manufacturer 1: AVX; Manufacturer Part Number 1: CBR04C120J5GAC; Supplier 1: Digi-Key; Supplier Part Number 1: 399-6169-1-ND; Supplier 2: Mouser; Supplier Part Number 2: 80-CBR04C120J5G; Value: 12pF
footprint CC1608-0603
simulation model CAP (Capacitor)
signal-integrity model Cap
footprint RESC0603L
footprint RESC1608L
footprint RESC3216L
footprint CAPC2512N
footprint 0603
footprint 0603_MOD
footprint 0402-TIGHT (For packing)
footprint 0402 Capacitor
pins: 1, 2

## CBR04C150J5GAC
designator C?, comment 15pF
CAP CER 15PF 50V 5% NP0 0402; Manufacturer 1: AVX; Manufacturer Part Number 1: CBR04C150J5GAC; Supplier 1: Digi-Key; Supplier Part Number 1: 399-6170-1-ND; Supplier 2: Mouser; Supplier Part Number 2: 80-CBR04C150J5G; Value: 15pF
footprint CC1608-0603
simulation model CAP (Capacitor)
signal-integrity model Cap
footprint RESC0603L
footprint RESC1608L
footprint RESC3216L
footprint CAPC2512N
footprint 0603
footprint 0603_MOD
footprint 0402-TIGHT (For packing)
footprint 0402 Capacitor
pins: 1, 2

## CBR04C339C5GAC
designator C?, comment 3.3pF
CAP CER 3.3PF 50V NP0 0402; Manufacturer Part Number 1: CBR04C339C5GAC; Manufacturer 1: AVX; Supplier 1: Digi-Key; Supplier Part Number 1: 399-6165-1-ND; Supplier 2: Mouser; Supplier Part Number 2: 80-CBR04C339C5G; Value: 3.3pF
footprint CC1608-0603
simulation model CAP (Capacitor)
signal-integrity model Cap
footprint RESC0603L
footprint RESC1608L
footprint RESC3216L
footprint CAPC2512N
footprint 0603
footprint 0603_MOD
footprint 0402-TIGHT (For packing)
footprint 0402 Capacitor
pins: 1, 2

## CC0402CRNPO9BN2R2
designator C?, comment 2.2pF
CAP CER 2.2PF 50V NPO 0402; Manufacturer Part Number 1: CC0402CRNPO9BN2R2; Manufacturer 1: Yageo; Part Type: Chip Capacitor; Supplier 1: Digi-Key; Supplier Part Number 1: 311-1354-1-ND; Supplier 2: Mouser; Supplier Part Number 2: 603-CC402CRNPO9BN2R2; Value: 2.2pF
footprint CAPC3216L (Chip Capacitor, Body 3.2x1.6mm, IPC High Density)
footprint CAPC1005L (Chip Capacitor, Body 1.0x0.5mm, IPC High Density)
footprint CAPC2512L (Chip Capacitor, Body 2.54x1.27mm, IPC High Density)
footprint CAPC1608L (Chip Capacitor, Body 1.6x0.8mm, IPC High Density)
footprint CAPC3225L (Chip Capacitor, Body 3.2x2.5mm, IPC High Density)
simulation model CAP (Semiconductor Capacitor)
signal-integrity model Cap Semi
footprint 01005-TIGHT
footprint 0201-TIGHT
footprint 0402-TIGHT (For packing)
footprint 0402 Capacitor
footprint 0402CS-RADIO
pins: 1, 2

## CC0402JRNPO9BN180
designator C?, comment 18pF
CAP CER 18PF 50V 5% NPO 0402; Manufacturer 1: Yageo; Manufacturer Part Number 1: CC0402JRNPO9BN180; Tolerance: 5%; Supplier 1: Digi-Key; Supplier Part Number 1: 311-1415-1-ND; Supplier 2: Mouser; Supplier Part Number 2: 603-CC402JRNPO9BN180; Value: 18pF
footprint CC1608-0603
simulation model CAP (Capacitor)
signal-integrity model Cap
footprint RESC0603L
footprint RESC1608L
footprint RESC3216L
footprint CAPC2512N
footprint 0603
footprint 0603_MOD
footprint 0402-TIGHT (For packing)
footprint 0402 Capacitor
pins: 1, 2

## CC0402JRNPO9BN240
designator C?, comment 24pF
CAP CER 24PF 50V 5% NPO 0402; Manufacturer 1: Yageo; Manufacturer Part Number 1: C0402C101K5GACTU; Tolerance: 10%; Supplier 1: Digi-Key; Supplier Part Number 1: 399-7750-1-ND; Supplier 2: Mouser; Supplier Part Number 2: 80-C0402C101K5G; Value: 24pF
footprint CC1608-0603
simulation model CAP (Capacitor)
signal-integrity model Cap
footprint RESC0603L
footprint RESC1608L
footprint RESC3216L
footprint CAPC2512N
footprint 0603
footprint 0603_MOD
footprint 0402-TIGHT (For packing)
footprint 0402 Capacitor
pins: 1, 2

## CC0402JRNPO9BN330
designator C?, comment 33pF
CAP CER 33PF 50V 5% NPO 0402; Manufacturer 1: Yageo; Manufacturer Part Number 1: CC0402JRNPO9BN330; Tolerance: 5%; Supplier 1: Digi-Key; Supplier Part Number 1: 311-1020-1-ND; Supplier 2: Mouser; Supplier Part Number 2: 603-CC402JRNPO9BN330; Value: 33pF
footprint CC1608-0603
simulation model CAP (Capacitor)
signal-integrity model Cap
footprint RESC0603L
footprint RESC1608L
footprint RESC3216L
footprint CAPC2512N
footprint 0603
footprint 0603_MOD
footprint 0402-TIGHT (For packing)
footprint 0402 Capacitor
pins: 1, 2

## CC0402KRX5R7BB104
designator C?, comment 0.1uF
CAP CER 0.1UF 16V 10% X5R 0402; Manufacturer Part Number 1: CC0402KRX5R7BB104; Manufacturer 1: Yageo; CMT Part Number: 100158; Part Type: Chip Capacitor; Supplier 1: Digi-Key; Supplier Part Number 1: 311-1347-1-ND; Supplier 2: Mouser; Supplier Part Number 2: 603-CC402KRX5R7BB104; Value: 0.1uF
footprint CAPC3216L (Chip Capacitor, Body 3.2x1.6mm, IPC High Density)
footprint CAPC1005L (Chip Capacitor, Body 1.0x0.5mm, IPC High Density)
footprint CAPC2512L (Chip Capacitor, Body 2.54x1.27mm, IPC High Density)
footprint CAPC1608L (Chip Capacitor, Body 1.6x0.8mm, IPC High Density)
footprint CAPC3225L (Chip Capacitor, Body 3.2x2.5mm, IPC High Density)
simulation model CAP (Semiconductor Capacitor)
signal-integrity model Cap Semi
footprint 01005-TIGHT
footprint 0201-TIGHT
footprint 0402-TIGHT (For packing)
footprint 0402 Capacitor
footprint 0402CS-RADIO
pins: 1, 2

## CC0402KRX7R9BB221
designator C?, comment 220pF
CAP CER 220PF 50V 10% X7R 0402; Manufacturer Part Number 1: CC0402KRX7R9BB221; Manufacturer 1: Yageo; Part Type: Chip Capacitor; Supplier 1: Digi-Key; Supplier Part Number 1: 311-1035-1-ND; Supplier 2: Mouser; Supplier Part Number 2: 603-CC402KRX7R9BB221; Value: 220pF
footprint CAPC3216L (Chip Capacitor, Body 3.2x1.6mm, IPC High Density)
footprint CAPC1005L (Chip Capacitor, Body 1.0x0.5mm, IPC High Density)
footprint CAPC2512L (Chip Capacitor, Body 2.54x1.27mm, IPC High Density)
footprint CAPC1608L (Chip Capacitor, Body 1.6x0.8mm, IPC High Density)
footprint CAPC3225L (Chip Capacitor, Body 3.2x2.5mm, IPC High Density)
simulation model CAP (Semiconductor Capacitor)
signal-integrity model Cap Semi
footprint 01005-TIGHT
footprint 0201-TIGHT
footprint 0402-TIGHT (For packing)
footprint 0402 Capacitor
footprint 0402CS-RADIO
pins: 1, 2

## CC1110FX
designator U?
IC SOC RF TXRX W/8051 MCU 36-QLP; Manufacturer 1: Texas Instruments; Manufacturer Part Number 1: CC1110F32RSPR; Part Type: IC; Supplier Part Number 1: 296-22740-1-ND; Supplier 1: Digi-Key; Supplier 2: Mouser; Supplier Part Number 2: 595-CC1110F32RSPR; Value: CC1110Fx
footprint QLP36_4_4
pins: 1 P1_2, 2 DVDD, 3 P1_1/LED, 4 P1_0/LED, 5 P0_0/ATEST, 6 P0_1, 7 P0_2, 8 P0_3, 9 P0_4, 10 DVDD, 11 P0_5, 12 P0_6, 13 P0_7, 14 P2_0, 15 P2_1, 16 P2_2, 17 P2_3/XOSC32_O1, 18 P2_4/XOSC32_O2, 19 AVDD, 20 XOSC_O2, 21 XOSC_O1, 22 AVDD, 23 RF_P, 24 RF_N, 25 AVDD, 26 AVDD, 27 RBIAS, 28 DGUARD, 29 DVDD, 30 DCOUPL, 31 NRESET, 32 P1_7, 33 P1_6, 34 P1_5, 35 P1_4, 36 P1_3, 37 GND